# EAGLE library part 12-BIT_ADC_8CH_SOIC (library mentor2)
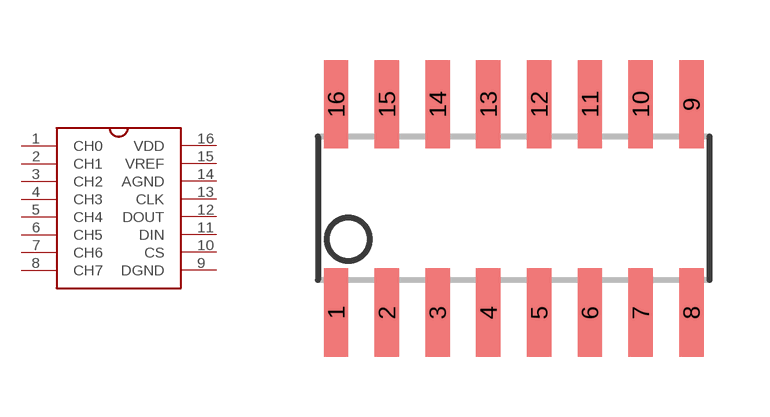
[diagram p8: symbol with the pads of SOIC16; footprint SOIC16]

Designator prefix -

## 12-BIT_ADC_8CH_SOIC  [SOIC16]
1  CH0
2  CH1
3  CH2
4  CH3
5  CH4
6  CH5
7  CH6
8  CH7
9  DGND
10  CS
11  DIN
12  DOUT
13  CLK
14  AGND
15  VREF
16  VDD

## Footprint SOIC16 (pad centres in mm)
smd 0.61 x 2.21: 1 -3.81,-2.603; 2 -2.54,-2.603; 3 -1.27,-2.603; 4 0,-2.603; 5 1.27,-2.603; 6 2.54,-2.603; 7 3.81,-2.603; 8 5.08,-2.603; 9 5.08,2.603; 10 3.81,2.603; 11 2.54,2.603; 12 1.27,2.603; 13 0,2.603; 14 -1.27,2.603; 15 -2.54,2.603; 16 -3.81,2.603